# Altium schematic symbol library TPS54383PWPR.SchLib: 1 symbol
Pins are listed as number, name and electrical type; pins without a type are passive.

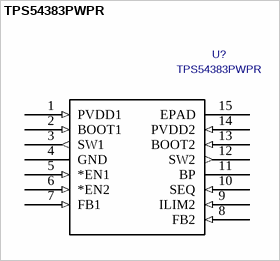
[diagram p0: symbol TPS54383PWPR]

## TPS54383PWPR
designator U?
C: Copyright (C) 2015 Accelerated Designs. All rights reserved; Vendor: Texas Instruments; Built_By: EMA_UL_Team; Value: TPS54383PWPR; Manufacturer_Part_Number: TPS54383PWPR; Manufacturer: Texas Instruments
footprint PWP14_2P31X2P400
pins: 1 PVDD1 (in), 2 BOOT1 (in), 3 SW1 (out), 4 GND (power), 5 *EN1 (in), 6 *EN2 (in), 7 FB1 (in), 8 FB2 (in), 9 ILIM2 (in), 10 SEQ (in), 11 BP, 12 SW2 (out), 13 BOOT2 (in), 14 PVDD2 (in), 15 EPAD